# Altium integrated library HT1621B.IntLib: 2 symbols
Pins are listed as number, name and electrical type; pins without a type are passive.

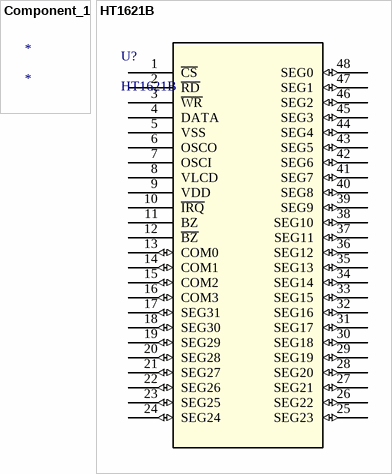
[diagram p0: symbols Component_1 to HT1621B]

## Component_1
designator *

## HT1621B
designator U?
No Description Available; Mfr_Name: Holtek; Copyright: Copyright (C) 2022 Ultra Librarian. All rights reserved.; Manufacturer_Part_Number: HT1621B; RefDes: RefDes; Type: DEV
footprint QFP_1621B_HLT-M
pins: 1 ~{CS}, 2 ~{RD}, 3 ~{WR}, 4 DATA, 5 VSS, 6 OSCO, 7 OSCI, 8 VLCD, 9 VDD (power), 10 ~{IRQ}, 11 BZ, 12 ~{BZ}, 13 COM0 (io), 14 COM1 (io), 15 COM2 (io), 16 COM3 (io), 17 SEG31 (io), 18 SEG30 (io), 19 SEG29 (io), 20 SEG28 (io), 21 SEG27 (io), 22 SEG26 (io), 23 SEG25 (io), 24 SEG24 (io), 25 SEG23 (io), 26 SEG22 (io), 27 SEG21 (io), 28 SEG20 (io), 29 SEG19 (io), 30 SEG18 (io), 31 SEG17 (io), 32 SEG16 (io), 33 SEG15 (io), 34 SEG14 (io), 35 SEG13 (io), 36 SEG12 (io), 37 SEG11 (io), 38 SEG10 (io), 39 SEG9 (io), 40 SEG8 (io), 41 SEG7 (io), 42 SEG6 (io), 43 SEG5 (io), 44 SEG4 (io), 45 SEG3 (io), 46 SEG2 (io), 47 SEG1 (io), 48 SEG0 (io)